# EAGLE library part PCA9685 (library IC & Transistor)
PCA 9685 16-channel, 12-bit PWM Fm+ I2C-bus LED controller. Created by: Wai Weng
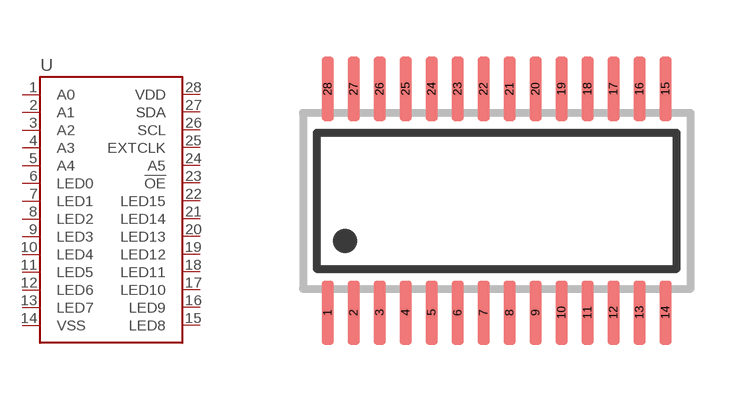
[diagram p95: symbol with the pads of TSSOP-28; footprint TSSOP-28]

Designator prefix U

## PCA9685 (DESC: S 16-Channel I2C LED Driver PCA9685PW TSSOP28; MF: NXP; MPN: PCA9685PW)  [TSSOP-28]
1  A0
2  A1
3  A2
4  A3
5  A4
6  LED0
7  LED1
8  LED2
9  LED3
10  LED4
11  LED5
12  LED6
13  LED7
14  VSS
15  LED8
16  LED9
17  LED10
18  LED11
19  LED12
20  LED13
21  LED14
22  LED15
23  !OE
24  A5
25  EXTCLK
26  SCL
27  SDA
28  VDD

## Footprint TSSOP-28 (pad centres in mm)
Thin Shrink Small Outline Package, 28 leads (TSSOP28). Size: 9.7 x 4.4mm Lead Pitch: 0.65mm Created by: Wai Weng
smd 0.3 x 1.6: 1 -4.225,-2.8; 2 -3.575,-2.8; 3 -2.925,-2.8; 4 -2.275,-2.8; 5 -1.625,-2.8; 6 -0.975,-2.8; 7 -0.325,-2.8; 8 0.325,-2.8; 9 0.975,-2.8; 10 1.625,-2.8; 11 2.275,-2.8; 12 2.925,-2.8; 13 3.575,-2.8; 14 4.225,-2.8; 15 4.225,2.8; 16 3.575,2.8; 17 2.925,2.8; 18 2.275,2.8; 19 1.625,2.8; 20 0.975,2.8; 21 0.325,2.8; 22 -0.325,2.8; 23 -0.975,2.8; 24 -1.625,2.8; 25 -2.275,2.8; 26 -2.925,2.8; 27 -3.575,2.8; 28 -4.225,2.8